# EAGLE library part IC2_LEVEL_TRANSLATER (library srg)
I2C Level Translator PCA9306 Data Sheet <http://www.ti.com/lit/ds/symlink/pca9306.pdf> Sparkfun breakout board schematic <http://dlnmh9ip6v2uc.cloudfront.net/datasheets/BreakoutBoards/PCA9306_Breakout.pdf>
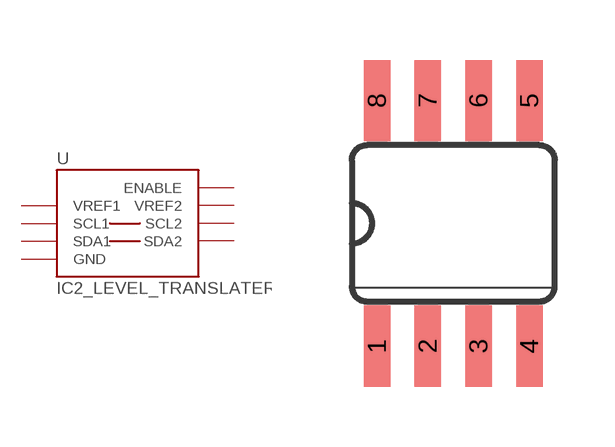
[diagram p9: symbol with the pads of SOIC-8; footprint SOIC-8]

Designator prefix -

## IC2_LEVEL_TRANSLATER  [SOIC-8]
1  VREF1  pwr
2  SCL1
3  SDA1
4  GND  pwr
5  SDA2
6  SCL2
7  VREF2  pwr
8  ENABLE  in

## Footprint SOIC-8 (pad centres in mm)
SOIC-8 Package 0.05" (1.27mm) lead pitch Body 3.8 mm x 4.9 mm
smd 0.66 x 2.032: 1 -1.905,-3.073; 2 -0.635,-3.073; 3 0.635,-3.073; 4 1.905,-3.073; 5 1.905,3.073; 6 0.635,3.073; 7 -0.635,3.073; 8 -1.905,3.073